# EAGLE library part TDA8541 (library power_amp)
The TDA8541(T) is a one channel audio power amplifier for an output power of 1 W with an 8 ? load at a 5 V supply. The circuit contains a BTL amplifier with a complementary PNP-NPN output stage and standby/mute logic. The TDA8541T comes in an 8 pin SO package and the TDA8541 in an 8 pin DIP package.
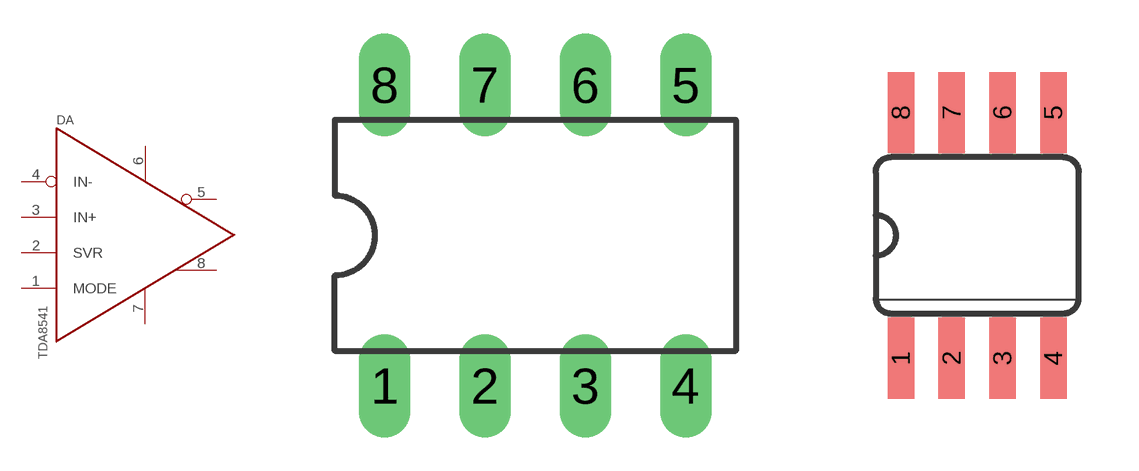
[diagram p1: symbol with the pads of DIL08; footprints DIL08, SO08]

Designator prefix DA

## TDA8541  [DIL08]
1  MODE  in
2  SVR  in
3  IN+  in
4  IN-  in
5  OUT-  out
6  VCC  pwr
7  GND  pwr
8  OUT+  out

## TDA8541T  [SO08]
Pads as for DIL08

## Footprint DIL08 (pad centres in mm)
Dual In Line Package
drill 0.8 long: 1 -3.81,-3.81; 2 -1.27,-3.81; 3 1.27,-3.81; 4 3.81,-3.81; 5 3.81,3.81; 6 1.27,3.81; 7 -1.27,3.81; 8 -3.81,3.81

## Footprint SO08 (pad centres in mm)
Small Outline Package
smd 0.66 x 2.032: 1 -1.905,-3.073; 2 -0.635,-3.073; 3 0.635,-3.073; 4 1.905,-3.073; 5 1.905,3.073; 6 0.635,3.073; 7 -0.635,3.073; 8 -1.905,3.073